# Altium schematic symbol library DAC7554.SchLib: 1 symbol
Pins are listed as number, name and electrical type; pins without a type are passive.

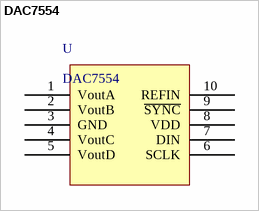
[diagram p0: symbol DAC7554]

## DAC7554
designator U
pins: 1 VoutA, 2 VoutB, 3 GND, 4 VoutC, 5 VoutD, 6 SCLK, 7 DIN, 8 VDD, 9 ~{SYNC}, 10 REFIN